# EAGLE library part TL53 (library switch)
DUAL TACT SWITCH E-Switch TL 53 Series
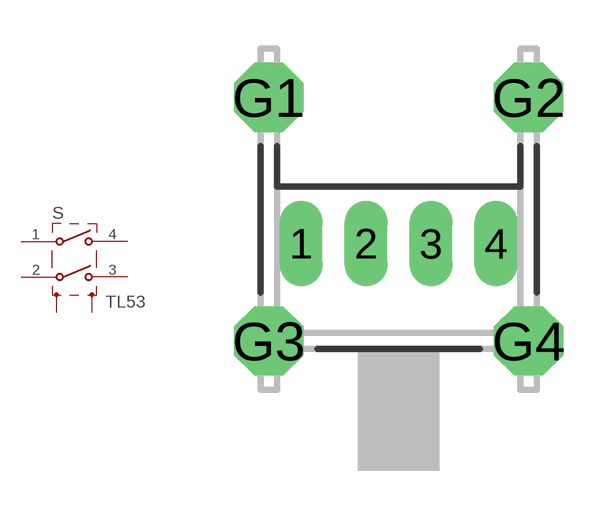
[diagram p13: symbol with the pads of TL53; footprint TL53]

Designator prefix S

## TL53  [TL53]
1  P1  pas
2  P2  pas
3  S2  pas
4  S1  pas
G1  G1  pas
G2  G2  pas
G3  G3  pas
G4  G4  pas

## Footprint TL53 (pad centres in mm)
DUAL TACT SWITCH E-Switch TL 53 Series
drill 0.813 long: 1 -3,0; 2 -1,0; 3 1,0; 4 3,0
drill 1.422 octagon: G1 -4,4.5; G2 4,4.5; G3 -4,-3; G4 4,-3